# Altium footprint library Circuit_protection.PcbLib: 31 footprints (part 1 of 2)
Each footprint in its own frame and in the unit in brackets; x right, y up, seen from the top. Pads: shape width x height; smd on the part's side, far side on the other; paste and mask are expansions set on the pad; w line width, h text height; cw(c..) or ccw(c..) is an arc to the next point about the centre after c.
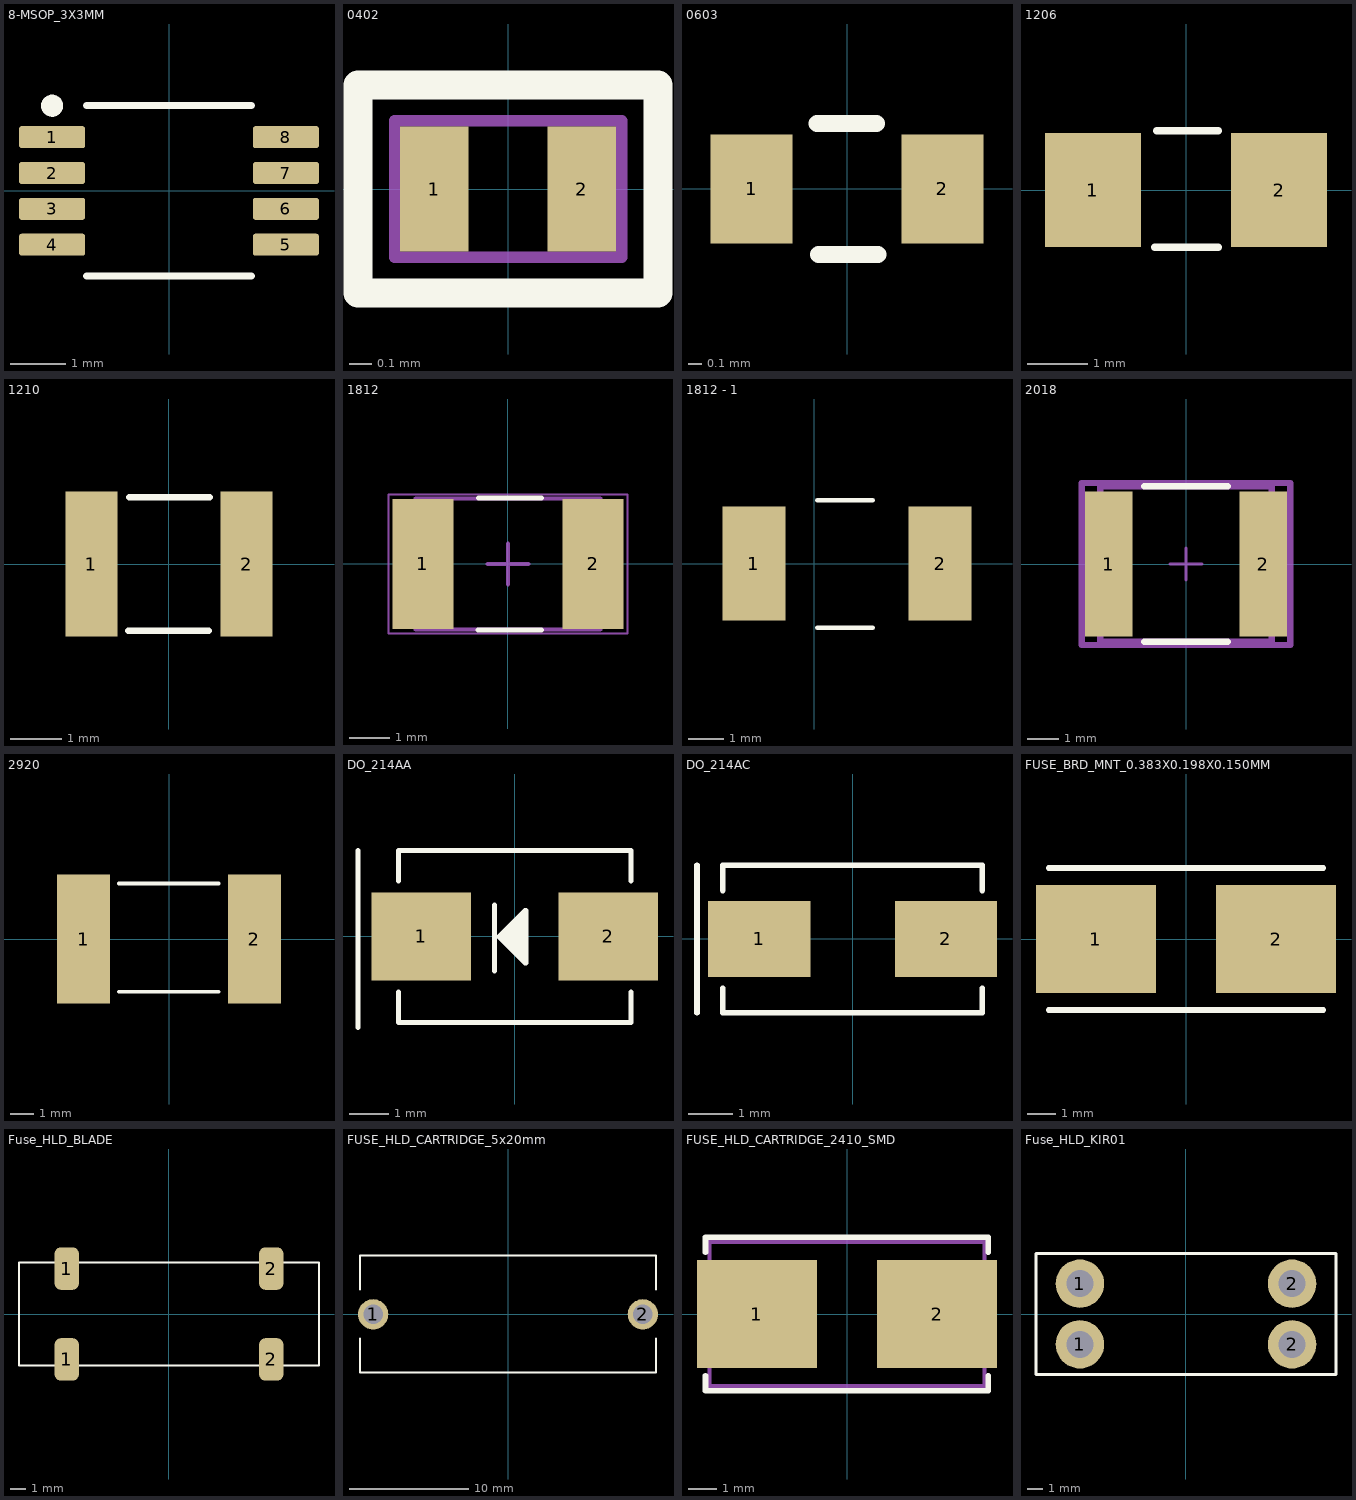
[diagram p0: the footprints below, top view; thin cyan lines are the x and y axes]

## 8-MSOP_3X3MM [mm] "/20210630/J-E.Pachon"
pads (8):
  rrect25% 1.2x0.4 smd: 1(-2.12,0.975) 2(-2.12,0.325) 3(-2.12,-0.325) 4(-2.12,-0.975) 5(2.12,-0.975) 6(2.12,-0.325) 7(2.12,0.325) 8(2.12,0.975)
Top Overlay:
  circle w0.2: c-2.12,1.545 r0.1
  lines w0.127: -1.5,-1.545 1.5,-1.545 ; -1.5,1.545 1.5,1.545
3D body "MSOP8_3P1X3P1_ONS.step": height 1.09, standoff 0, extent -2.539,-1.559 2.515,1.539

## 0402 [mm] "1006 Metric, 2-X1SON / 20211220 / E.Naranjo"
pads (2):
  rect 0.3x0.55 smd: 1(-0.325,0) 2(0.325,0)
Top Overlay:
  lines w0.127: -0.66,-0.457 0.66,-0.457 0.66,0.457 -0.66,0.457 -0.66,-0.457
Mechanical 1:
  lines w0.05: -0.5,-0.3 -0.5,0.3 0.5,0.3 0.5,-0.3 -0.5,-0.3
3D body "TPD1E10B06DPYR.STEP": height 0.47, standoff 0.02, extent -0.5,-0.3 0.5,0.3

## 0603 [mm] "/20230608/J-A.Sepulveda"
pads (2):
  rect 0.6x0.8 smd: 1(-0.7,0) 2(0.7,0)
Top Overlay:
  lines w0.127: -0.217,0.48 0.214,0.48 ; -0.207,-0.48 0.225,-0.48
3D body "RF1977-000.STEP": height 0.46, standoff 0.01, extent -0.8,-0.4 0.8,0.4

## 1206 [mm] "/20210216/J-E.Pachon"
pads (2):
  rect 1.6x1.9 smd: 1(-1.55,0) 2(1.55,0)
Top Overlay:
  lines w0.127: -0.52,-0.955 0.54,-0.955 ; -0.483,0.991 0.533,0.991
3D body "fuse 1206.step": height 0.51, standoff 0.01, extent -1.751,-0.875 1.649,0.825

## 1210 [mm] "3225 Metric / 20190221 / C-A.Serna.A"
pads (2):
  rect 1x2.8 smd: 1(-1.5,0) 2(1.5,0)
Top Overlay:
  lines w0.127: -0.783,-1.289 0.773,-1.289 ; -0.765,1.293 0.791,1.293
3D body "FUSE_1210.step": height 0.64, standoff -0.04, extent -1.673,-1.276 1.542,1.299

## 1812 [mm] "4532 Metric / 20190321 / N-A.Potosi"
pads (2):
  rect 1.5x3.2 smd: 1(-2.1,0) 2(2.1,0)
Top Overlay:
  lines w0.127: -0.735,-1.626 0.821,-1.626 ; -0.728,1.626 0.828,1.626
Mechanical 1:
  lines w0.1: -2.275,-1.62 -2.275,-0.5 ccw(c-2.275,0) -2.275,0.5 -2.275,1.62 2.275,1.62 2.275,0.5 ccw(c2.275,0) 2.275,-0.5 2.275,-1.62 -2.275,-1.62
Mechanical 15:
  lines w0.05: -2.95,-1.72 -2.95,1.72 2.95,1.72 2.95,-1.72 -2.95,-1.72
  lines w0.1: -0.5,0 0.5,0 ; 0,-0.5 0,0.5
3D body: height 0.85, standoff 0, extent -2.276,-1.621 2.276,1.62

## 1812 - 1 [mm] "4532 Metric / 20230606 / J.Jaramillo"
pads (2):
  rect 1.78x3.2 smd: 1(-1.694,0) 2(3.531,0)
Top Overlay:
  lines w0.127: 0.089,-1.803 1.645,-1.803 ; 0.089,1.783 1.645,1.783
3D body: height 0.85, standoff 0, extent -1.336,-1.638 3.216,1.639

## 2018 [mm] "5045 metric/ 20210726 / C-D Viveros"
pads (2):
  rect 1.5x4.6 smd: 1(-2.45,0) 2(2.45,0)
Top Overlay:
  lines w0.2: -1.325,-2.465 1.325,-2.465 ; -1.325,2.465 1.325,2.465
Mechanical 1:
  lines w0.2: -2.72,-2.465 2.72,-2.465 2.72,2.465 -2.72,2.465 -2.72,-2.465
Mechanical 15:
  lines w0.1: -0.5,0 0.5,0 ; 0,-0.5 0,0.5
  lines w0.2: -3.3,-2.565 3.3,-2.565 3.3,2.565 -3.3,2.565 -3.3,-2.565
3D body "Fuse_Bourns_Inc_MF-SMDF050-2_eec.STEP": height 1.09, standoff 0, extent -2.54,-2.292 2.54,2.283

## 2920 [mm] "7531 metric/ 20190327/ V-A.Patino"
pads (2):
  rect 2.3x5.6 smd: 1(-3.7,0) 2(3.7,0)
Top Overlay:
  lines w0.17: -2.176,-2.286 2.142,-2.286 ; -2.176,2.413 2.142,2.413
3D body "0ZCF.stp": height 1.14, standoff 0, extent -4.005,-2.807 3.971,2.807

## DO_214AA [mm] "SMB / 20190221 / C-A.Serna.A"
pads (2):
  rect 2.5x2.2 smd: 1(-2.35,0) 2(2.35,0)
Top Overlay:
  region: 0.282,0.651 0.263,0.651 -0.397,-0.009 0.263,-0.669
  lines w0.127: -3.937,-2.286 -3.937,2.159 ; -2.921,-1.397 -2.921,-2.159 2.921,-2.159 2.921,-1.397 ; -2.921,1.397 -2.921,2.159 2.921,2.159 2.921,1.397 ; -0.508,-0.864 -0.508,0.787 ; 0.282,-0.009 -0.397,-0.009 ; -0.397,-0.009 0.263,-0.669 0.282,-0.669 0.282,0.651 0.263,0.651 -0.397,-0.009
3D body "User Library-DIOM5539X24.STEP": height 2.45, standoff 0.03, extent -2.75,-1.95 2.75,1.95

## DO_214AC [mm] "SMA / 20190221 / C-A.Serna.A"
pads (2):
  rect 2.3x1.7 smd: 1(-2.1,0) 2(2.1,0)
Top Overlay:
  lines w0.127: -3.5,-1.663 -3.5,1.663 ; -2.923,-1.105 -2.923,-1.663 2.919,-1.663 2.919,-1.105 ; -2.923,1.092 -2.923,1.651 ; -2.923,1.663 2.919,1.663 ; 2.919,1.092 2.919,1.651
3D body "Diode_TVS-DO-214AC.step": height 2.3, standoff 0.02, extent -2.743,-1.397 2.743,1.397

## FUSE_BRD_MNT_0.383X0.198X0.150MM [mm] "/20220518/F-A.Ospina"
pads (2):
  rect 4.24x3.81 smd: 1(-3.19,0) 2(3.19,0)
Top Overlay:
  lines w0.2: -4.863,-2.515 4.863,-2.515 ; -4.863,2.515 4.863,2.515
3D body "0154007.DRT.STEP": height 3.82, standoff 0.01, extent -4.814,-2.515 4.916,2.515

## Fuse_HLD_BLADE [mm] "/20200522/J-P.Vargas.A"
pads (4):
  rrect50% 1.6x2.8 smd: 1(-6.75,-3) 1(-6.75,3) 2(6.75,-3) 2(6.75,3)
Top Overlay:
  lines w0.127: -9.9,-3.4 -9.9,3.4 9.9,3.4 9.9,-3.4 -9.9,-3.4
3D body "keystone-PN3587-10TR.STEP": height 8.06, standoff 0.01, extent -9.906,-4.318 9.906,4.318

## FUSE_HLD_CARTRIDGE_5x20mm [mm] "/20201016/C-A.Serna.A"
height 12.85
pads (2):
  round 2.54 hole 1.651: 1(-11.3,0) 2(11.3,0)
Top Overlay:
  lines w0.152: -12.4,-2.002 -12.4,-4.873 12.4,-4.873 ; -12.4,2.057 -12.4,4.927 ; 12.4,-2.002 12.4,-4.872 ; 12.4,2.058 12.4,4.928 -12.4,4.928 ; -12.4,4.927 -12.4,4.928 ; 12.4,-4.873 12.4,-4.872
3D body "FH10-200C.step": height 12.86, standoff -3.74, extent -12.4,-4.872 12.4,4.928

## FUSE_HLD_CARTRIDGE_2410_SMD [mm] "/20201105/C-A.Serna.A"
pads (2):
  rect 4.24x3.81 smd: 1(-3.185,0) 2(3.185,0)
Top Overlay:
  lines w0.203: -5.004,-2.184 -5.004,-2.718 4.997,-2.718 4.997,-2.184 ; -5.004,2.184 -5.004,2.718 4.997,2.718 4.997,2.184
Mechanical 1:
  lines w0.152: -4.865,-2.55 -4.865,2.55 4.865,2.55 4.865,-2.55 -4.865,-2.55
3D body: height 4, standoff 0.1, extent -4.865,-2.55 4.865,2.55

## Fuse_HLD_KIR01 [mm] "/20210519/C-A.Serna.A"
pads (4):
  round 3.2 / inner round 0 / far side round 3.556 hole 1.778: 1(-7,-2) 1(-7,2) 2(7,-2) 2(7,2)
Top Overlay:
  lines w0.203: -9.9,-4 9.9,-4 9.9,4 -9.9,4 -9.9,-4
3D body: height 0, standoff -2.5, extent -7.748,1.253 -6.251,2.747
3D body: height 0, standoff -2.5, extent -7.748,-2.747 -6.251,-1.253
3D body: height 0, standoff -2.5, extent 6.252,-2.747 7.749,-1.253
3D body: height 0, standoff -2.5, extent 6.252,1.253 7.749,2.747
3D body: height 20, standoff 0, extent -9.9,-4 9.9,4